# EAGLE library part CC430F5137IRGZ (library CC430F5137IRGZ)
MSP430 SoC with RF Core
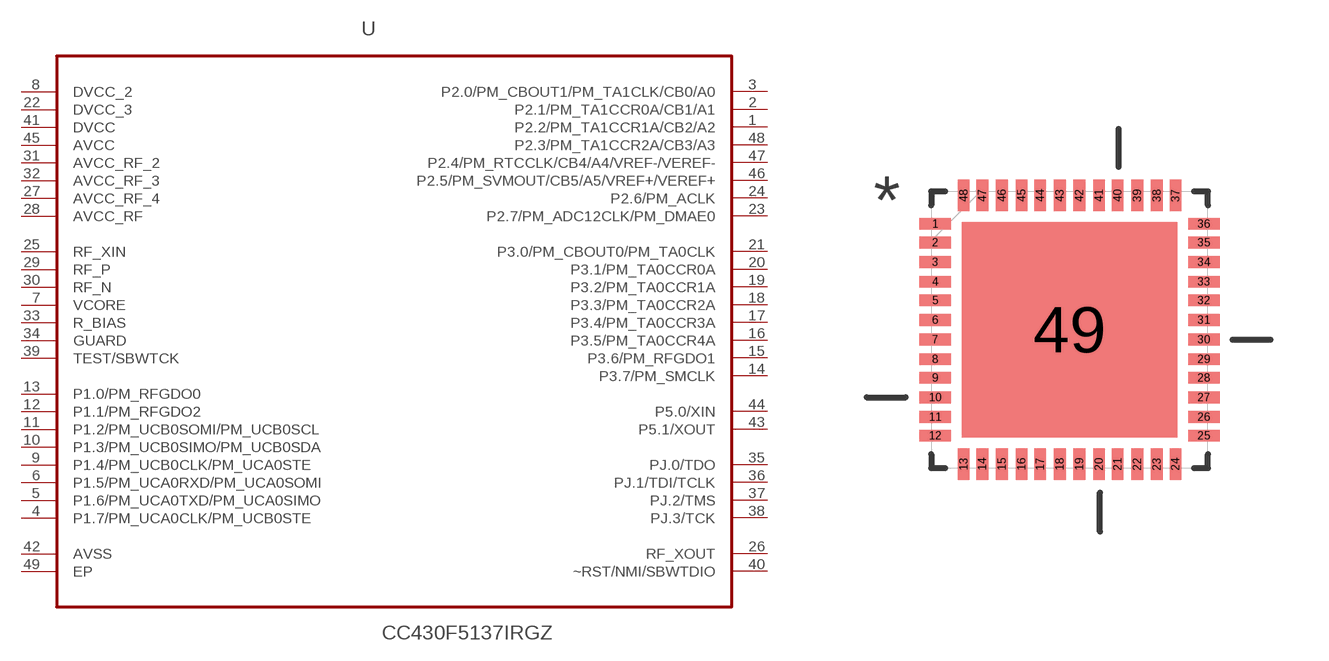
[diagram p0: symbol with the pads of QFN50P700X700X100-49N; footprint QFN50P700X700X100-49N]

Designator prefix U

## CC430F5137IRGZ (MPN: CC430F5137IRGZ; OC_FARNELL: -; OC_NEWARK: 68R5911; PACKAGE: QFN-48; SUPPLIER: TEXAS INSTRUMENTS)  [QFN50P700X700X100-49N]
1  P2.2/PM_TA1CCR1A/CB2/A2
2  P2.1/PM_TA1CCR0A/CB1/A1
3  P2.0/PM_CBOUT1/PM_TA1CLK/CB0/A0
4  P1.7/PM_UCA0CLK/PM_UCB0STE
5  P1.6/PM_UCA0TXD/PM_UCA0SIMO
6  P1.5/PM_UCA0RXD/PM_UCA0SOMI
7  VCORE  in
8  DVCC_2  pwr
9  P1.4/PM_UCB0CLK/PM_UCA0STE
10  P1.3/PM_UCB0SIMO/PM_UCB0SDA
11  P1.2/PM_UCB0SOMI/PM_UCB0SCL
12  P1.1/PM_RFGDO2
13  P1.0/PM_RFGDO0
14  P3.7/PM_SMCLK
15  P3.6/PM_RFGDO1
16  P3.5/PM_TA0CCR4A
17  P3.4/PM_TA0CCR3A
18  P3.3/PM_TA0CCR2A
19  P3.2/PM_TA0CCR1A
20  P3.1/PM_TA0CCR0A
21  P3.0/PM_CBOUT0/PM_TA0CLK
22  DVCC_3  pwr
23  P2.7/PM_ADC12CLK/PM_DMAE0
24  P2.6/PM_ACLK
25  RF_XIN  in
26  RF_XOUT  out
27  AVCC_RF_4  pwr
28  AVCC_RF  pwr
29  RF_P
30  RF_N
31  AVCC_RF_2  pwr
32  AVCC_RF_3  pwr
33  R_BIAS  in
34  GUARD  in
35  PJ.0/TDO
36  PJ.1/TDI/TCLK
37  PJ.2/TMS
38  PJ.3/TCK
39  TEST/SBWTCK  in
40  ~RST/NMI/SBWTDIO
41  DVCC  pwr
42  AVSS  pas
43  P5.1/XOUT
44  P5.0/XIN
45  AVCC  pwr
46  P2.5/PM_SVMOUT/CB5/A5/VREF+/VEREF+
47  P2.4/PM_RTCCLK/CB4/A4/VREF-/VEREF-
48  P2.3/PM_TA1CCR2A/CB3/A3
49  EP  pas

## Footprint QFN50P700X700X100-49N (pad centres in mm)
smd 0.813 x 0.305: 1 -3.48,2.743; 2 -3.48,2.261; 3 -3.48,1.753; 4 -3.48,1.245; 5 -3.48,0.762; 6 -3.48,0.254; 7 -3.48,-0.254; 8 -3.48,-0.762; 9 -3.48,-1.245; 10 -3.48,-1.753; 11 -3.48,-2.261; 12 -3.48,-2.743; 25 3.48,-2.743; 26 3.48,-2.261; 27 3.48,-1.753; 28 3.48,-1.245; 29 3.48,-0.762; 30 3.48,-0.254; 31 3.48,0.254; 32 3.48,0.762; 33 3.48,1.245; 34 3.48,1.753; 35 3.48,2.261; 36 3.48,2.743
smd 0.305 x 0.813: 13 -2.743,-3.48; 14 -2.261,-3.48; 15 -1.753,-3.48; 16 -1.245,-3.48; 17 -0.762,-3.48; 18 -0.254,-3.48; 19 0.254,-3.48; 20 0.762,-3.48; 21 1.245,-3.48; 22 1.753,-3.48; 23 2.261,-3.48; 24 2.743,-3.48; 37 2.743,3.48; 38 2.261,3.48; 39 1.753,3.48; 40 1.245,3.48; 41 0.762,3.48; 42 0.254,3.48; 43 -0.254,3.48; 44 -0.762,3.48; 45 -1.245,3.48; 46 -1.753,3.48; 47 -2.261,3.48; 48 -2.743,3.48
smd 5.588 x 5.588: 49 0,0